# Altium schematic symbol library R5F52206BDFM#30.SchLib: 1 symbol
Pins are listed as number, name and electrical type; pins without a type are passive.

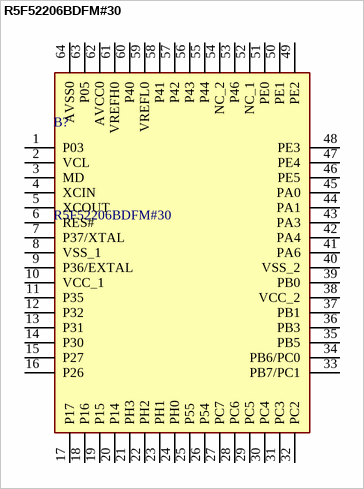
[diagram p0: symbol R5F52206BDFM#30]

## R5F52206BDFM#30
designator B?
The RX220 Group of products is the slimmed-down version of the higher model RX210 Group, and has very high compatibilility in terms of pin arrangement and on the software level.; Manufacturer_Name: Renesas Electronics; Geometry.Height: 1.7mm; Manufacturer_Part_Number: R5F52206BDFM#30; Mouser Part Number: 968-R5F52206BDFM#30; Mouser Price/Stock: https://www.mouser.co.uk/ProductDetail/Renesas-Electronics/R5F52206BDFM30/?qs=ZVKuL1Ob8AunE2VrwZ7crw%3D%3D; Arrow Part Number: R5F52206BDFM#30; Arrow Price/Stock: https://www.arrow.com/en/products/r5f52206bdfm30/renesas-electronics; Datasheet Link: https://www.renesas.com/sg/en/doc/products/mpumcu/doc/rx_family/r01ds0130ej0110_rx220.pdf
footprint QFP50P1200X1200X170-64N
pins: 1 P03, 2 VCL, 3 MD, 4 XCIN, 5 XCOUT, 6 RES#, 7 P37/XTAL, 8 VSS_1, 9 P36/EXTAL, 10 VCC_1, 11 P35, 12 P32, 13 P31, 14 P30, 15 P27, 16 P26, 17 P17, 18 P16, 19 P15, 20 P14, 21 PH3, 22 PH2, 23 PH1, 24 PH0, 25 P55, 26 P54, 27 PC7, 28 PC6, 29 PC5, 30 PC4, 31 PC3, 32 PC2, 33 PB7/PC1, 34 PB6/PC0, 35 PB5, 36 PB3, 37 PB1, 38 VCC_2, 39 PB0, 40 VSS_2, 41 PA6, 42 PA4, 43 PA3, 44 PA1, 45 PA0, 46 PE5, 47 PE4, 48 PE3, 49 PE2, 50 PE1, 51 PE0, 52 NC_1, 53 P46, 54 NC_2, 55 P44, 56 P43, 57 P42, 58 P41, 59 VREFL0, 60 P40, 61 VREFH0, 62 AVCC0, 63 P05, 64 AVSS0